# Altium schematic symbol library 5.2 - 1.27mm连接器(1.27排针排母).SchLib: 11 symbols
Pins are listed as number, name and electrical type; pins without a type are passive.

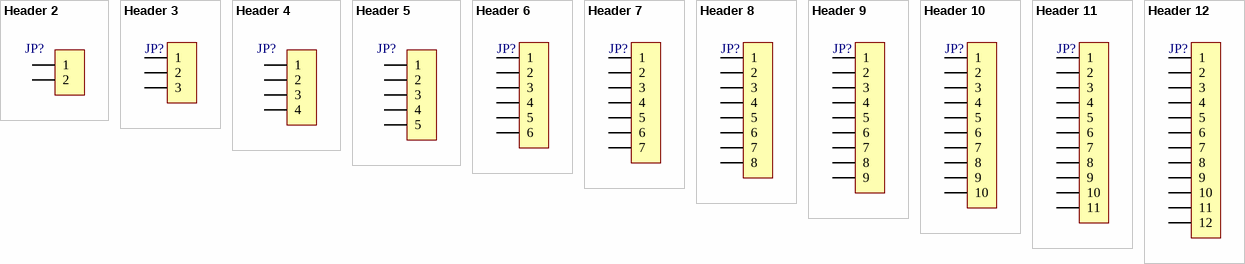
[diagram p0: symbols Header 2 to Header 12]

## Header 2
designator JP?, comment HDR-1X2  (value not drawn)
2P连接器; 联系卖家 免费查找封装: 唯一出售店铺网址https://shop463601444.taobao.com; BOM名称: 2P连接器
footprint HDR1.27-LI-2P (直插，脚距：1.27mm)
footprint HDR1.27-M-LI-2P (直插，脚距：1.27mm)
pins: 1, 2

## Header 3
designator JP?, comment HDR-1X3  (value not drawn)
3P连接器; 联系卖家 免费查找封装: 唯一出售店铺网址https://shop463601444.taobao.com; BOM名称: 3P连接器
footprint HDR1.27-LI-3P (直插，脚距：1.27mm)
footprint HDR1.27-M-LI-3P (直插，脚距：1.27mm)
pins: 1, 2, 3

## Header 4
designator JP?, comment HDR-1X4  (value not drawn)
4P连接器; 联系卖家 免费查找封装: 唯一出售店铺网址https://shop463601444.taobao.com; BOM名称: 4P连接器
footprint HDR1.27-LI-4P (直插，脚距：1.27mm)
footprint HDR1.27-M-LI-4P (直插，脚距：1.27mm)
pins: 1, 2, 3, 4

## Header 5
designator JP?, comment HDR-1X5  (value not drawn)
5P连接器; 联系卖家 免费查找封装: 唯一出售店铺网址https://shop463601444.taobao.com; BOM名称: 5P连接器
footprint HDR1.27-LI-5P (直插，脚距：1.27mm)
footprint HDR1.27-M-LI-5P (直插，脚距：1.27mm)
pins: 1, 2, 3, 4, 5

## Header 6
designator JP?, comment HDR-1X6  (value not drawn)
6P连接器; 联系卖家 免费查找封装: 唯一出售店铺网址https://shop463601444.taobao.com; BOM名称: 6P连接器
footprint HDR1.27-LI-6P (直插，脚距：1.27mm)
footprint HDR1.27-M-LI-6P (直插，脚距：1.27mm)
pins: 1, 2, 3, 4, 5, 6

## Header 7
designator JP?, comment HDR-1X7  (value not drawn)
7P连接器; 联系卖家 免费查找封装: 唯一出售店铺网址https://shop463601444.taobao.com; BOM名称: 7P连接器
footprint HDR1.27-LI-7P (直插，脚距：1.27mm)
footprint HDR1.27-M-LI-7P (直插，脚距：1.27mm)
pins: 1, 2, 3, 4, 5, 6, 7

## Header 8
designator JP?, comment HDR-1X8  (value not drawn)
8P连接器; 联系卖家 免费查找封装: 唯一出售店铺网址https://shop463601444.taobao.com; BOM名称: 8P连接器
footprint HDR1.27-LI-8P (直插，脚距：1.27mm)
footprint HDR1.27-M-LI-8P (直插，脚距：1.27mm)
pins: 1, 2, 3, 4, 5, 6, 7, 8

## Header 9
designator JP?, comment HDR-1X9  (value not drawn)
9P连接器; 联系卖家 免费查找封装: 唯一出售店铺网址https://shop463601444.taobao.com; BOM名称: 9P连接器
footprint HDR1.27-LI-9P (直插，脚距：1.27mm)
footprint HDR1.27-M-LI-9P (直插，脚距：1.27mm)
pins: 1, 2, 3, 4, 5, 6, 7, 8, 9

## Header 10
designator JP?, comment HDR-1X10  (value not drawn)
10P连接器; 联系卖家 免费查找封装: 唯一出售店铺网址https://shop463601444.taobao.com; BOM名称: 10P连接器
footprint HDR1.27-LI-10P (Footprint not found)
footprint HDR1.27-M-LI-10P (Footprint not found)
pins: 1, 2, 3, 4, 5, 6, 7, 8, 9, 10

## Header 11
designator JP?, comment CON-11P  (value not drawn)
11P连接器; 联系卖家 免费查找封装: 唯一出售店铺网址https://shop463601444.taobao.com; BOM名称: 11P连接器
footprint HDR1.27-LI-11P (直插，脚距：1.27mm)
footprint HDR1.27-M-LI-11P (直插，脚距：1.27mm)
pins: 1, 2, 3, 4, 5, 6, 7, 8, 9, 10, 11

## Header 12
designator JP?, comment CON-12P  (value not drawn)
12P连接器; 联系卖家 免费查找封装: 唯一出售店铺网址https://shop463601444.taobao.com; BOM名称: 12P连接器
footprint HDR1.27-LI-12P (直插，脚距：1.27mm)
footprint HDR1.27-M-LI-12P (直插，脚距：1.27mm)
pins: 1, 2, 3, 4, 5, 6, 7, 8, 9, 10, 11, 12